# EAGLE library part 691314520107 (library Wurth_Connectors_WR-TBL Pluggable Connector)
WR-TBL Serie 314 - 5.08 mm Close PCB Header KIND PROPERTIES Pitch 5.08 mm MATERIAL PROPERTIES Insulator Material PA66 Insulator Flammability Rating UL94 V-0 Contact Material Brass Contact Plating Tin GENERAL INFORMATION Operating Temperature -40 up to +105 °C Compliance RoHS ELECTRICAL PROPERTIES IR cULus 20 A IR VDE 20 A Working Voltage [cULus] 300 V (AC) Working Voltage [VDE] 300 V (AC) Withstanding Voltage [cULus] 1600 V (AC) Withstanding Voltage [VDE] 2500 V (AC) Contact Resistance [cULus] 20 mΩ Contact Resistance [VDE] 20 mΩ CERTIFICATION cULus Approval E315414 VDE Approval 40023195 <https://www.we-online.com/catalog/media/o33267v209%20Family_WR-TBL_6913145201xx.jpg> Details see: https://www.we-online.com/catalog/en/TBL_5_08_314_CLOSE_PCB_HEADER_6913145201XX/ Updated by Ella Wu 2019-12-26 2022(C) Wurth Elektronik
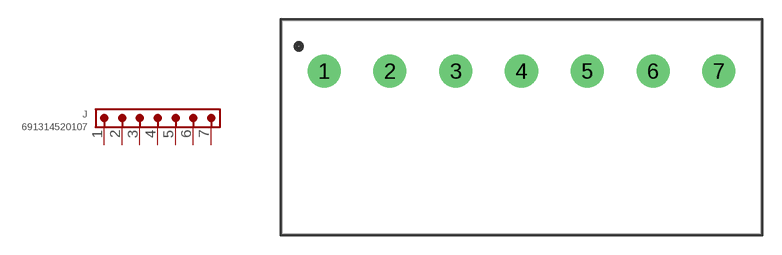
[diagram p369: symbol with the pads of 691314520107; footprint 691314520107]

Designator prefix J

## 691314520107 (DATASHEET-URL: https://www.we-online.com/redexpert/spec/691314520107?ae; IR-UL: 20A; IR-VDE: 20A; MOUNT: THT; PART-NUMBER: 691314520107; PINS: 7; PITCH: 5.08mm; TYPE: 45°; VALUE: 691314520107; WORKING-VOLTAGE-UL: 300V (AC); WORKING-VOLTAGE-VDE: 300V (AC))  [691314520107]
1  1  pas
2  2  pas
3  3  pas
4  4  pas
5  5  pas
6  6  pas
7  7  pas

## Footprint 691314520107 (pad centres in mm)
WR-TBL Serie 314 - 5.08 mm Close PCB Header Max Height = 14.5mm , Pitch 5.08mm , 7pins
drill 1.7: 1 -15.24,0; 2 -10.16,0; 3 -5.08,0; 4 0,0; 5 5.08,0; 6 10.16,0; 7 15.24,0